# Altium schematic symbol library QSTL_24DC_4MW_PCB.SchLib: 2 symbols
Pins are listed as number, name and electrical type; pins without a type are passive.

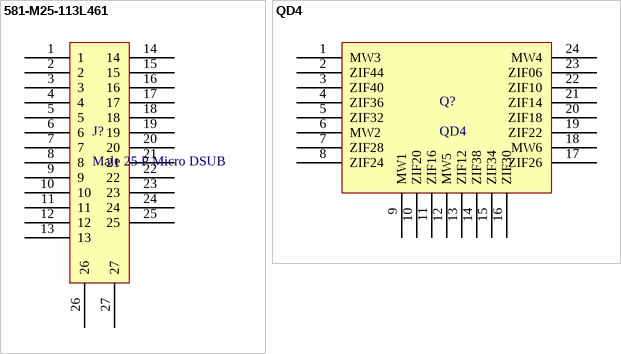
[diagram p0: symbols 581-M25-113L461 to QD4]

## 581-M25-113L461
designator J?, comment Male 25 P Micro DSUB
footprint 581-M25-213L461
pins: 1, 2, 3, 4, 5, 6, 7, 8, 9, 10, 11, 12, 13, 14, 15, 16, 17, 18, 19, 20, 21, 22, 23, 24, 25, 26, 27

## QD4
designator Q?
QD4 modified24pin variant; v2 RF4/DC20 assignments; original numbering preserved
pins: 1 MW3, 2 ZIF44, 3 ZIF40, 4 ZIF36, 5 ZIF32, 6 MW2, 7 ZIF28, 8 ZIF24, 9 MW1, 10 ZIF20, 11 ZIF16, 12 MW5, 13 ZIF12, 14 ZIF38, 15 ZIF34, 16 ZIF30, 17 ZIF26, 18 MW6, 19 ZIF22, 20 ZIF18, 21 ZIF14, 22 ZIF10, 23 ZIF06, 24 MW4